# EAGLE library part 2ADOUBLEHBRIDGE (library Nick'sEagle)
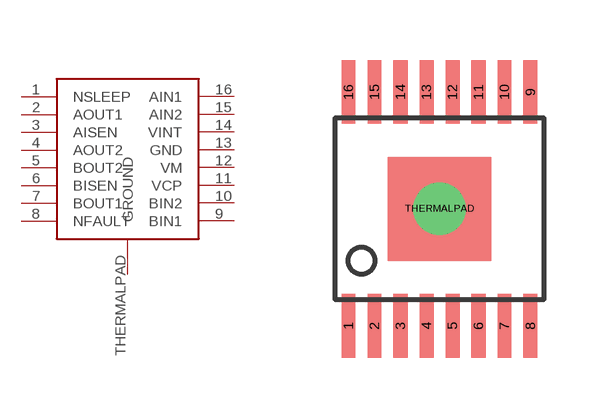
[diagram p3: symbol with the pads of TI'SPWP; footprint TI'SPWP]

Designator prefix -

## 2ADOUBLEHBRIDGE  [TI'SPWP]
1  NSLEEP
2  AOUT1
3  AISEN
4  AOUT2
5  BOUT2
6  BISEN
7  BOUT1
8  NFAULT
9  BIN1
10  BIN2
11  VCP
12  VM
13  GND
14  VINT
15  AIN2
16  AIN1
THERMALPAD  GROUND

## Footprint TI'SPWP (pad centres in mm)
smd 0.35 x 1.6: 1 -2.275,-2.925; 2 -1.625,-2.925; 3 -0.975,-2.925; 4 -0.325,-2.925; 5 0.325,-2.925; 6 0.975,-2.925; 7 1.625,-2.925; 8 2.275,-2.925; 9 2.275,2.925; 10 1.625,2.925; 11 0.975,2.925; 12 0.325,2.925; 13 -0.325,2.925; 14 -0.975,2.925; 15 -1.625,2.925; 16 -2.275,2.925
drill 0.8: THERMALPAD 0,0